# Altium footprint library LIS3DMLTR.PcbLib: 1 footprints
Each footprint in its own frame and in the unit in brackets; x right, y up, seen from the top. Pads: shape width x height; smd on the part's side, far side on the other; paste and mask are expansions set on the pad; w line width, h text height; cw(c..) or ccw(c..) is an arc to the next point about the centre after c.
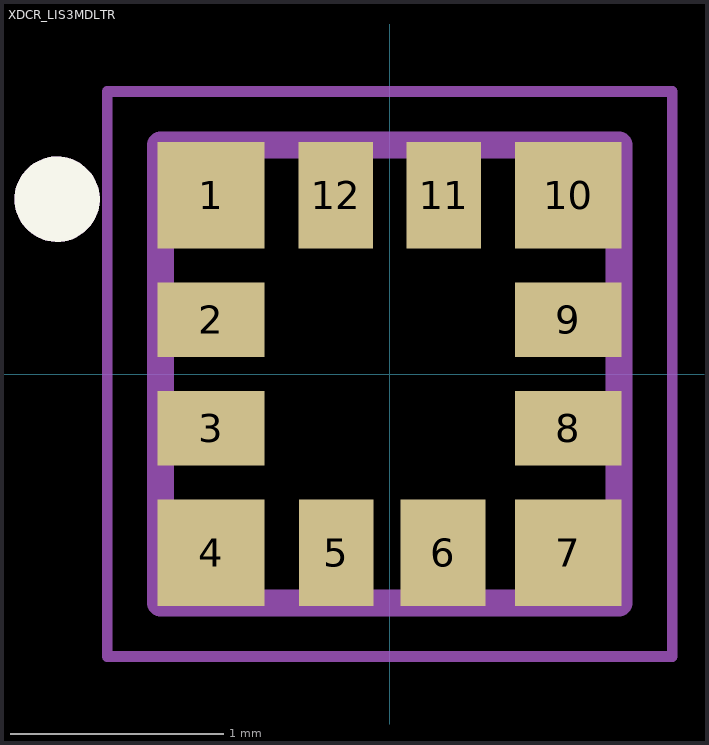
[diagram p0: the footprint, top view; thin cyan lines are the x and y axes]

## XDCR_LIS3MDLTR [mm]
pads (12):
  rect 0.5x0.5 smd mask+0: 1(-0.838,0.838) 4(-0.838,-0.838) 7(0.838,-0.838) 10(0.838,0.838)
  rect 0.5x0.35 smd mask+0: 2(-0.838,0.254) 3(-0.838,-0.254) 8(0.838,-0.254) 9(0.838,0.254)
  rect 0.35x0.5 smd mask+0: 5(-0.25,-0.839) 11(0.254,0.838) 12(-0.254,0.838)
  rect 0.4x0.5 smd mask+0: 6(0.25,-0.839)
Top Overlay:
  circle w0.2: c-1.56,0.82 r0.1
Top Solder:
  region: 1.143,-1.143 0.525,-1.143 0.525,-0.525 1.143,-0.525
  region: -0.525,-1.143 -1.143,-1.143 -1.143,-0.525 -0.525,-0.525
  region: 1.143,0.525 0.525,0.525 0.525,1.143 1.143,1.143
  region: -0.525,0.525 -1.143,0.525 -1.143,1.143 -0.525,1.143
  region: -0.525,0.025 -1.143,0.025 -1.143,0.475 -0.525,0.475
  region: -0.525,-0.475 -1.143,-0.475 -1.143,-0.025 -0.525,-0.025
  region: 1.143,0.025 0.525,0.025 0.525,0.475 1.143,0.475
  region: 1.143,-0.475 0.525,-0.475 0.525,-0.025 1.143,-0.025
  region: -0.025,-1.143 -0.475,-1.143 -0.475,-0.525 -0.025,-0.525
  region: -0.025,0.525 -0.475,0.525 -0.475,1.143 -0.025,1.143
  region: 0.475,0.525 0.025,0.525 0.025,1.143 0.475,1.143
  region: 0.475,-1.143 0.025,-1.143 0.025,-0.525 0.475,-0.525
Mechanical 13:
  circle w0.2: c-1.56,0.82 r0.1
  lines w0.127: -1.075,-1.075 -1.075,1.075 1.075,1.075 1.075,-1.075 -1.075,-1.075
Mechanical 15:
  lines w0.05: -1.325,-1.325 -1.325,1.325 1.325,1.325 1.325,-1.325 -1.325,-1.325
3D body "LIS3MDLTR--3DModel-STEP-56544.STEP": height 1, standoff 0, extent -1,-1 1,1